# Altium footprint library 超实用封装库(专用C).PcbLib: 106 footprints (part 7 of 7)
Each footprint in its own frame and in the unit in brackets; x right, y up, seen from the top. Pads: shape width x height; smd on the part's side, far side on the other; paste and mask are expansions set on the pad; w line width, h text height; cw(c..) or ccw(c..) is an arc to the next point about the centre after c.
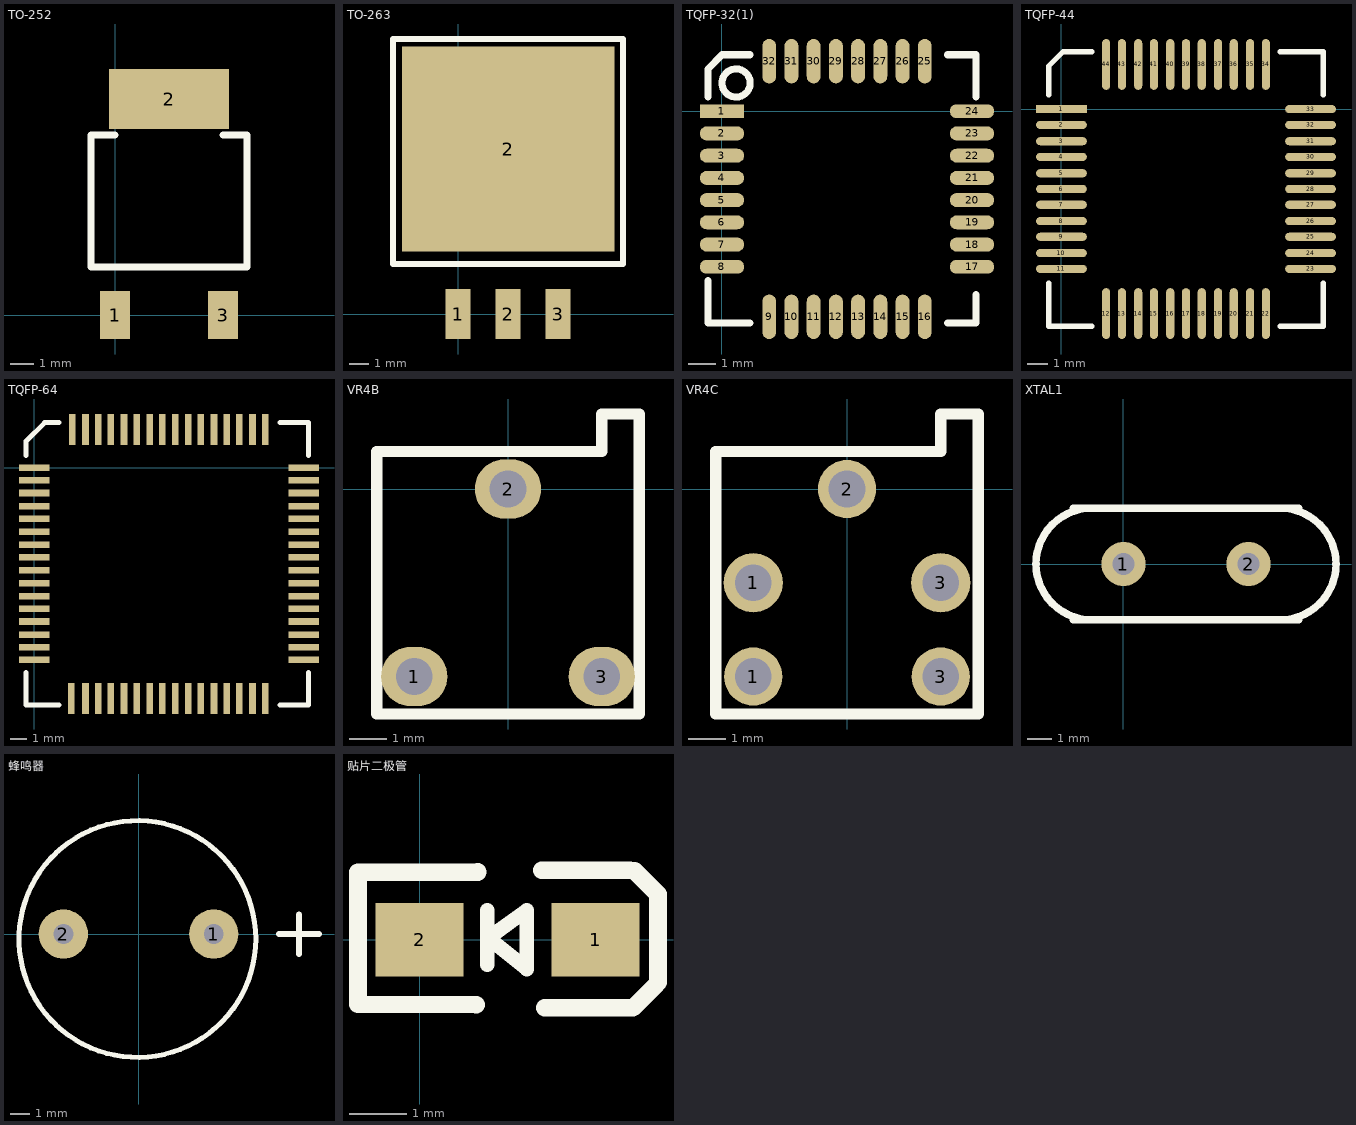
[diagram p6: the footprints below, top view; thin cyan lines are the x and y axes]

## TO-252 [mil]
pads (3):
  rect 50x80 smd: 1(0,0) 3(180,0)
  rect 200x100 smd: 2(90,360)
TopOverlay:
  lines w11.81: -40,80 -40,300 0,300 ; 180,300 220,300 220,80
  lines w12: -40,80 220,80

## TO-263 [mil]
pads (4):
  rect 50x100 smd: 1(0,0) 2(100,0) 3(200,0)
  rect 425x410 smd: 2(100,330)
TopOverlay:
  lines w11.81: -130,100 330,100 330,550 -130,550 -130,100

## TQFP-32(1) [mm]
pads (32):
  rect 1.6x0.5 smd: 1(0,0)
  oval 1.6x0.5 smd: 2(0,-0.8) 3(0,-1.6) 4(0,-2.4) 5(0,-3.2) 6(0,-4) 7(0,-4.8) 8(0,-5.6) 17(9,-5.6) 18(9,-4.8) 19(9,-4) 20(9,-3.2) 21(9,-2.4) 22(9,-1.6) 23(9,-0.8) 24(9,0)
  oval 0.5x1.6 smd: 9(1.7,-7.4) 10(2.5,-7.4) 11(3.3,-7.4) 12(4.1,-7.4) 13(4.9,-7.4) 14(5.7,-7.4) 15(6.5,-7.4) 16(7.3,-7.4) 25(7.3,1.8) 26(6.5,1.8) 27(5.7,1.8) 28(4.9,1.8) 29(4.1,1.8) 30(3.3,1.8) 31(2.5,1.8) 32(1.7,1.8)
TopOverlay:
  circle w0.254: c0.508,1.016 r0.508
  lines w0.254: -0.508,-7.112 -0.508,-6.096 ; -0.508,-6.604 -0.508,-7.62 1.016,-7.62 ; -0.508,0.508 -0.508,1.524 0,2.032 0.508,2.032 1.016,2.032 ; 8.128,-7.62 9.144,-7.62 9.144,-6.604 ; 8.128,2.032 9.144,2.032 9.144,0.508

## TQFP-44 [mil]
pads (44):
  rect 100x16 smd: 1(0,0)
  oval 100x16 smd: 2(0,-31) 3(0,-63) 4(0,-94) 5(0,-126) 6(0,-157) 7(0,-188) 8(0,-220) 9(0,-251) 10(0,-283) 11(0,-314) 23(490,-314) 24(490,-283) 25(490,-251) 26(490,-220) 27(490,-188) 28(490,-157) 29(490,-126) 30(490,-94) 31(490,-63) 32(490,-31) 33(490,0)
  oval 16x100 smd: 12(88,-402) 13(119,-402) 14(151,-402) 15(182,-402) 16(214,-402) 17(245,-402) 18(276,-402) 19(308,-402) 20(339,-402) 21(371,-402) 22(402,-402) 34(402,88) 35(371,88) 36(339,88) 37(308,88) 38(276,88) 39(245,88) 40(214,88) 41(182,88) 42(151,88) 43(119,88) 44(88,88)
TopOverlay:
  lines w10: -25,-342 -25,-427 60,-427 ; -25,28 -25,85 3,113 60,113 ; 430,-427 515,-427 515,-342 ; 430,113 515,113 515,28

## TQFP-64 [mil]
pads (64):
  rect 75x16 smd: 1(0,0) 2(0,-31) 3(0,-62) 4(0,-94) 5(0,-125) 6(0,-157) 7(0,-188) 8(0,-219) 9(0,-251) 10(0,-282) 11(0,-314) 12(0,-345) 13(0,-376) 14(0,-408) 15(0,-439) 16(0,-470) 33(658,-469.79) 34(658,-439) 35(658,-408) 36(658,-376) 37(658,-345) 38(658,-314) 39(658,-282) 40(658,-251) 41(658,-219) 42(658,-188) 43(658,-157) 44(658,-125) 45(658,-94) 46(658,-62) 47(658,-31) 48(658,0)
  rect 16x75 smd: 17(90,-564) 18(125,-564) 19(156,-564) 20(187,-564) 21(219,-564) 22(250,-564) 23(282,-564) 24(313,-564) 25(344,-564) 26(376,-564) 27(407,-564) 28(439,-564) 29(470,-564) 30(501,-564) 31(533,-564) 32(564,-564) 49(564,93) 50(533,93) 51(501,93) 52(470,93) 53(439,93) 54(407,93) 55(376,93) 56(344,93) 57(313,93) 58(282,93) 59(250,93) 60(219,93) 61(187,93) 62(156,93) 63(125,93) 64(93,93)
TopOverlay:
  lines w12: -20,-500 -20,-580 60,-580 ; -20,30 -20,65 25,110 60,110 ; 600,-580 670,-580 670,-500 ; 600,110 670,110 670,30

## VR4B [mm]
pads (3):
  oval 1.8x1.6 hole 1: 1(-2.54,-5.08) 2(0,0) 3(2.54,-5.08)
TopOverlay:
  lines w0.305: -3.556,-6.096 -3.556,1.016 2.54,1.016 2.54,2.032 3.556,2.032 3.556,-6.096 -3.556,-6.096

## VR4C [mm]
pads (5):
  round 1.575 hole 1: 1(-2.54,-5.08) 2(0,0) 3(2.54,-5.08)
  round 1.6 hole 1: 1(-2.54,-2.54) 3(2.54,-2.54)
TopOverlay:
  lines w0.305: -3.556,-6.096 3.556,-6.096 3.556,2.032 2.54,2.032 2.54,1.016 -3.556,1.016 -3.556,-6.096

## XTAL1 [mm]
pads (2):
  round 1.8 hole 0.9: 1(0,0) 2(5.08,0)
TopOverlay:
  lines w0.305: -2.033,-2.259 7.113,-2.259 ; -2.033,2.259 7.113,2.259 ; -1.524,-2.259 cw(c-1.283,0) -1.524,2.259 ; 6.604,-2.259 ccw(c6.363,0) 6.604,2.259

## 蜂鸣器 [mm]
pads (2):
  round 2.5 hole 1: 1(3.81,0) 2(-3.81,0)
TopOverlay:
  circle w0.254: c-0.06,-0.25 r6
  lines w0.305: 7.112,0 9.144,0 ; 8.128,-1 8.128,1

## 贴片二极管 [mil]
pads (2):
  rect 60x50 smd: 1(120,0) 2(0,0)
TopOverlay:
  lines w10: 46,-17 46,20 ; 47,1 73,20 73,-20 47,1
  lines w12: 38.52,-44.45 -42,-44 -42,46 39.62,46.1 ; 83.23,47.19 143.23,47.19 ; 85.37,-46.37 145.37,-46.37 ; 145.91,-46.1 160.91,-31.1 ; 146.49,46.92 161.49,31.92 ; 162.49,-29 162.49,31